# EAGLE library part 595-541-165-ULN2803_ULN2803 (library DOUTv1.3)
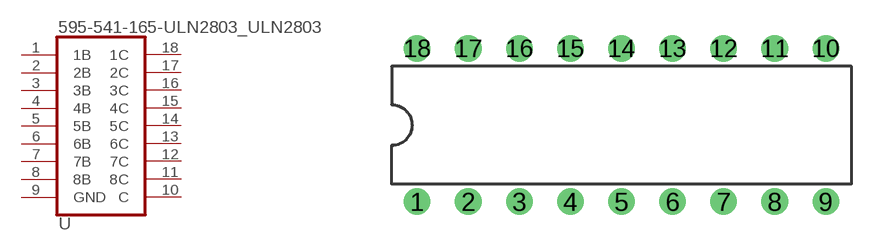
[diagram p1: symbol with the pads of 595-541-165-ULN2803_DIL18; footprint 595-541-165-ULN2803_DIL18]

Designator prefix -

## 595-541-165-ULN2803_ULN2803  [595-541-165-ULN2803_DIL18]
1  1B  in
2  2B  in
3  3B  in
4  4B  in
5  5B  in
6  6B  in
7  7B  in
8  8B  in
9  GND  pwr
10  C  pas
11  8C  oc
12  7C  oc
13  6C  oc
14  5C  oc
15  4C  oc
16  3C  oc
17  2C  oc
18  1C  oc

## Footprint 595-541-165-ULN2803_DIL18 (pad centres in mm)
drill 0.813: 1 -10.16,-3.81; 2 -7.62,-3.81; 3 -5.08,-3.81; 4 -2.54,-3.81; 5 0,-3.81; 6 2.54,-3.81; 7 5.08,-3.81; 8 7.62,-3.81; 9 10.16,-3.81; 10 10.16,3.81; 11 7.62,3.81; 12 5.08,3.81; 13 2.54,3.81; 14 0,3.81; 15 -2.54,3.81; 16 -5.08,3.81; 17 -7.62,3.81; 18 -10.16,3.81